# Altium schematic symbol library Schlib1.SchLib: 4 symbols
Pins are listed as number, name and electrical type; pins without a type are passive.

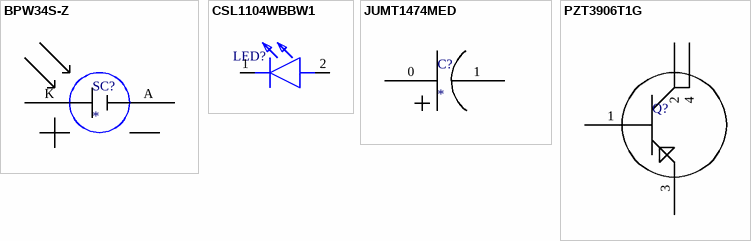
[diagram p0: symbols BPW34S-Z to PZT3906T1G]

## BPW34S-Z
designator SC?
Photodiode PIN Chip 850nm 0.62A/W Sensitivity Automotive 2-Pin DIL SMT; Manufacturer: Osram Opto; Manufacturer Part Number: BPW34S-Z; Viewing Angle: 120°; Forward Current: 100mA; Rise Time: 20ns; Reverse Voltage (DC): 32V; Max Power Dissipation: 150mW; Dark Current: 2nA; Supplier 1: Digi-Key; RoHS: Yes; Category: Phototransistor; Stock 1: 499; Pricing 1: 1=1.15000, 10=0.74900, 100=0.49070 (USD); Mount: Surface Mount; Case/Package: SMD/SMT; Number of Pins: 2; Contact Plating: Tin,Matte; Min Operating Temperature: -40°C; Max Operating Temperature: 100°C; Package Quantity: 1500; Wavelength: 850nm; Packaging: Tape and Reel; Response Time: 20ns; Fall Time: 20ns; Diode Type: PIN; Max Reverse Voltage (DC): 32V; Series: -; Responsivity: 0.62A/W; Radiation Hardening: No; RoHS Compliant: Yes; ComponentLink1URL: https://datasheet.ciiva.com/2819/bpw34-spdf-2819826.pdf?src-supplier=Digi-Key; ComponentLink1Description: https://datasheet.ciiva.com/2819/bpw34-spdf-2819826.pdf?src-supplier=Digi-Key; ComponentLink2URL: https://datasheet.ciiva.com/2819/bpw34-spdf-2819825.pdf?src-supplier=Digi-Key; ComponentLink2Description: https://datasheet.ciiva.com/2819/bpw34-spdf-2819825.pdf?src-supplier=Digi-Key; ComponentLink3URL: https://datasheet.ciiva.com/2819/bpw34-spdf-2819827.pdf?src-supplier=Digi-Key; ComponentLink3Description: https://datasheet.ciiva.com/2819/bpw34-spdf-2819827.pdf?src-supplier=Digi-Key; Supplier Part Number 1: 475-2659-1-ND
footprint BPW34S-Z
pins: A Anode, K Cathode

## CSL1104WBBW1
designator LED?  (value not drawn)
LED; Manufacturer_Name: ROHM Semiconductor; Manufacturer_Part_Number: CSL1104WBBW1; Description: Standard LEDs - SMD LED WHITE 0603; Datasheet Link: https://fscdn.rohm.com/en/products/databook/datasheet/opto/led/chip_mono/csl1104wb1-e.pdf; Height: 0.65mm
footprint CSL1104WBBW1
pins: 1 K, 2 A

## JUMT1474MED
designator C?
Cap Supercap 0.47F 2.7V 20% (6.3 X 9mm) Radial 2.5mm 4 Ohm 1000h 70C Bulk Automotive; Manufacturer: Nichicon; Manufacturer Part Number: JUMT1474MED; Capacitance: 470mF; ESR (Equivalent Series Resistance): 4R; Leakage Current: 500uA; Life (Hours): 1000Hour; Lead Diameter: 0.5mm; Supplier 1: Digi-Key; RoHS: Yes; Category: Capacitors; Stock 1: 24; Pricing 1: 1=1.53000, 10=1.21100, 50=1.04980, 100=0.90860, 500=0.68646, 1000=0.60570, 2500=0.56532, 5000=0.54513 (USD); Mount: Through Hole; Case/Package: Radial; Number of Pins: 2; Min Operating Temperature: -25°C; Max Operating Temperature: 70°C; Tolerance: 20%; Termination: Radial; Packaging: Bulk; Package Quantity: 200; Voltage Rating: 2.7V; Voltage: 2.7V; Voltage Rating (DC): 2.7V; Series: UM; Construction: RADIAL; Diameter: 6.3mm; Length: 9mm; Height: 9mm; Lead Pitch: 2.5mm; Height - Seated (Max): 0.413inch; Depth: 9mm; Radiation Hardening: No; REACH SVHC: No SVHC; Lead Free: Lead Free; RoHS Compliant: Yes; ComponentLink1URL: https://datasheet.ciiva.com/11790/0900766b80ec956c-11790073.pdf?src-supplier=RSComponents; ComponentLink1Description: https://datasheet.ciiva.com/11790/0900766b80ec956c-11790073.pdf?src-supplier=RSComponents; ComponentLink2URL: https://datasheet.ciiva.com/238/e-um-238255.pdf?src-supplier=Digi-Key; ComponentLink2Description: https://datasheet.ciiva.com/238/e-um-238255.pdf?src-supplier=Digi-Key; ComponentLink3URL: https://datasheet.ciiva.com/2992/e-um-2992932.pdf?src-supplier=Avnet; ComponentLink3Description: https://datasheet.ciiva.com/2992/e-um-2992932.pdf?src-supplier=Avnet; ComponentLink4URL: https://datasheet.ciiva.com/1472/e-um-1472004.pdf?src-supplier=Farnell; ComponentLink4Description: https://datasheet.ciiva.com/1472/e-um-1472004.pdf?src-supplier=Farnell; ComponentLink5URL: https://datasheet.ciiva.com/17358/e-um-17358011.pdf?src-supplier=Avnet+Europe; ComponentLink5Description: https://datasheet.ciiva.com/17358/e-um-17358011.pdf?src-supplier=Avnet+Europe; Supplier Part Number 1: 493-3290-ND
footprint JUMT1474MED
pins: 0, 1

## PZT3906T1G
designator Q?  (value not drawn)
Transistor Gp Bjt PNP 40V 200MA 4-PIN SOT-223 T/r; Manufacturer: ON Semiconductor; Manufacturer Part Number: PZT3906T1G; Collector Emitter Voltage (VCEO): 400mV; hFE Min: 60; Max Power Dissipation: 1.5W; Transition Frequency: 250MHz; Emitter Base Voltage (VEBO): 5V; Element Configuration: Single; Collector Base Voltage (VCBO): -40V; Collector Emitter Saturation Voltage: -400mV; Current Rating: -200mA; Supplier 1: Mouser; RoHS: Yes; Category: BJTs; Stock 1: 1663; Pricing 1: 1=0.71000, 10=0.62300, 50=0.62300, 100=0.47800, 1000=0.30100, 10000=0.30100 (USD); Mount: Surface Mount; Case/Package: TO-261-4; Min Operating Temperature: -55°C; Max Operating Temperature: 150°C; Packaging: Tape and Reel; Package Quantity: 1000; Max Collector Current: 200mA; Polarity: PNP; Collector Emitter Breakdown Voltage: 40V; Gain Bandwidth Product: 250MHz; Voltage Rating (DC): -40V; Series: -; Collector-emitter Voltage-Max: 400mV; Lead Free: Lead Free; RoHS Compliant: Yes; ComponentLink1URL: https://datasheet.ciiva.com/6357/pzt3906t1-d-6357904.pdf?src-supplier=Digi-Key; ComponentLink1Description: https://datasheet.ciiva.com/6357/pzt3906t1-d-6357904.pdf?src-supplier=Digi-Key; Supplier Part Number 1: 863-PZT3906T1G
footprint PZT3906T1G
pins: 1, 2, 3, 4